# Altium footprint library STM32F401_Nucleo.PcbLib: 31 footprints (part 1 of 2)
Each footprint in its own frame and in the unit in brackets; x right, y up, seen from the top. Pads: shape width x height; smd on the part's side, far side on the other; paste and mask are expansions set on the pad; w line width, h text height; cw(c..) or ccw(c..) is an arc to the next point about the centre after c.
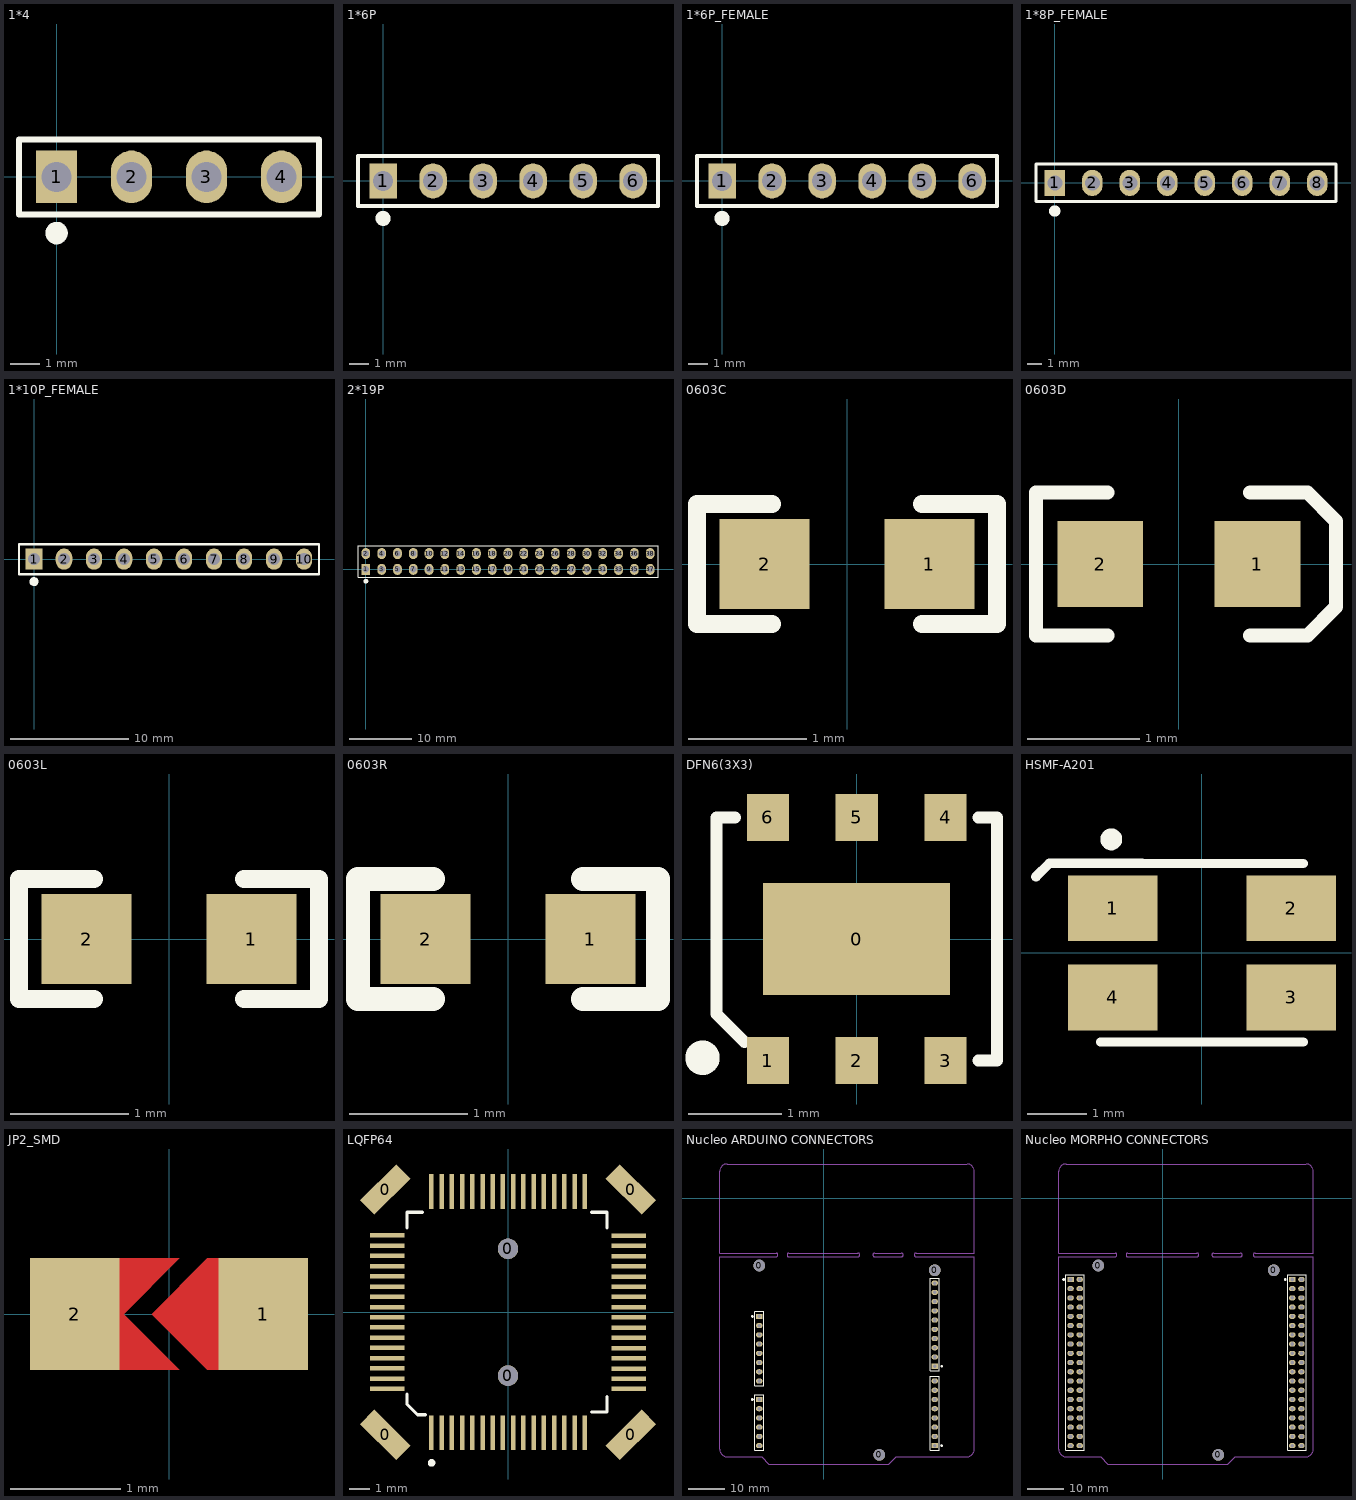
[diagram p0: the footprints below, top view; thin cyan lines are the x and y axes]

## 1*4 [mil]
pads (4):
  rect 55x70 hole 40: 1(0,0)
  oval 55x70 hole 40: 2(100,0) 3(200,0) 4(300,0)
Top Overlay:
  circle w15: c0.08,-75 r7.5
  lines w7.87: -50,-50 350,-50 350,50 -50,50 -50,-50

## 1*6P [mil]
pads (6):
  rect 55x70 hole 40: 1(0,0)
  oval 55x70 hole 40: 2(100,0) 3(200,0) 4(300,0) 5(400,0) 6(500,0)
Top Overlay:
  circle w15: c0.08,-75 r7.5
  lines w7.87: -50,-50 550,-50 550,50 -50,50 -50,-50

## 1*6P_FEMALE [mil]
pads (6):
  rect 55x70 hole 40: 1(0,0)
  oval 55x70 hole 40: 2(100,0) 3(200,0) 4(300,0) 5(400,0) 6(500,0)
Top Overlay:
  circle w15: c0.08,-75 r7.5
  lines w7.87: -50,-50 550,-50 550,50 -50,50 -50,-50

## 1*8P_FEMALE [mil]
pads (8):
  rect 55x70 hole 40: 1(0,0)
  oval 55x70 hole 40: 2(100,0) 3(200,0) 4(300,0) 5(400,0) 6(500,0) 7(600,0) 8(700,0)
Top Overlay:
  circle w15: c0.08,-75 r7.5
  lines w7.87: -50,-50 -50,50 750,50 750,-50 -50,-50

## 1*10P_FEMALE [mil]
pads (10):
  rect 55x70 hole 40: 1(0,0)
  oval 55x70 hole 40: 2(100,0) 3(200,0) 4(300,0) 5(400,0) 6(500,0) 7(600,0) 8(700,0) 9(800,0) 10(900,0)
Top Overlay:
  circle w15: c0.08,-75 r7.5
  lines w7.87: -50,-50 -50,50 950,50 950,-50 -50,-50

## 2*19P [mil]
pads (38):
  rect 55x70 hole 40: 1(0,0)
  oval 55x70 hole 40: 2(0,100) 3(100,0) 4(100,100) 5(200,0) 6(200,100) 7(300,0) 8(300,100) 9(400,0) 10(400,100) 11(500,0) 12(500,100) 13(600,0) 14(600,100) 15(700,0) 16(700,100) 17(800,0) 18(800,100) 19(900,0) 20(900,100) 21(1000,0) 22(1000,100) 23(1100,0) 24(1100,100) 25(1200,0) 26(1200,100) 27(1300,0) 28(1300,100) 29(1400,0) 30(1400,100) 31(1500,0) 32(1500,100) 33(1600,0) 34(1600,100) 35(1700,0) 36(1700,100) 37(1800,0) 38(1800,100)
Top Overlay:
  circle w15: c0.08,-75 r7.5
  lines w7.87: -50,-50 1850,-50 1850,150 -50,150 -50,-50

## 0603C [mil]
pads (2):
  rect 30x30 smd: 1(27.5,0) 2(-27.5,0)
Top Overlay:
  lines w6: -25,-20 -50,-20 -50,20 -25,20 ; 25,-20 50,-20 50,20 25,20

## 0603D [mil]
pads (2):
  rect 30x30 smd: 1(27.5,0) 2(-27.5,0)
Top Overlay:
  lines w5: -25,-25 -50,-25 -50,25 -25,25 ; 25,-25 45,-25 55,-15 55,15 45,25 25,25

## 0603L [mil]
pads (2):
  rect 30x30 smd: 1(27.5,0) 2(-27.5,0)
Top Overlay:
  lines w6: -25,-20 -50,-20 -50,20 -25,20 ; 25,-20 50,-20 50,20 25,20

## 0603R [mil]
pads (2):
  rect 30x30 smd: 1(27.5,0) 2(-27.5,0)
Top Overlay:
  lines w8: -25,-20 -50,-20 -50,20 -25,20 ; 25,-20 50,-20 50,20 25,20

## DFN6(3X3) [mm]
pads (7):
  rect 2x1.2 smd: 0(0,0)
  rect 0.45x0.5 smd: 1(-0.95,-1.3) 2(0,-1.3) 3(0.95,-1.3) 4(0.95,1.3) 5(0,1.3) 6(-0.95,1.3)
Top Overlay:
  circle w0.25: c-1.649,-1.27 r0.059
  lines w0.127: -1.3,1.3 -1.5,1.3 -1.5,-0.8 -1.2,-1.1 ; 1.3,-1.3 1.5,-1.3 1.5,1.3 1.3,1.3

## HSMF-A201 [mm]
pads (4):
  rect 1.5x1.1 smd: 1(-1.5,0.75) 2(1.5,0.75) 3(1.5,-0.75) 4(-1.5,-0.75)
Top Overlay:
  circle w0.25: c-1.522,1.905 r0.059
  lines w0.152: -1.7,-1.5 1.7,-1.5 ; -1.7,1.5 1.7,1.5
  lines w0.16: -2.786,1.278 -2.564,1.5 ; -2.54,1.5 -1,1.5

## JP2_SMD [mil]
pads (2):
  rect 32x40 smd: 1(33.75,0) 2(-33.75,0)
Top Layer:
  region: -26.25,0 -16.25,0 3.75,-20 -26.25,-20
  region: -26.25,0 -16.25,0 3.75,20 -26.25,20
  region: 23.75,20 13.75,20 -6.25,0 13.75,-20 23.75,-20
Top Paste:
  region: -26.25,0 -16.25,0 3.75,-20 -26.25,-20
  region: -26.25,0 -16.25,0 3.75,20 -26.25,20
  region: 23.75,20 13.75,20 -6.25,0 13.75,-20 23.75,-20
Top Solder:
  region: -26.25,0 -12.25,0 11.75,-24 -26.25,-24
  region: -26.25,0 -12.25,0 11.75,24 -26.25,24
  region: 23.75,24 13.75,24 -10.25,0 13.75,-24 23.75,-24

## LQFP64 [mm]
pads (70):
  rect 1x2.5 smd rot 45: 0(-6,-6) 0(6,6)
  rect 1x2.5 smd rot 135: 0(-6,6) 0(6,-6)
  round 1 hole 1 unplated: 0(0,-3.1) 0(0,3.1)
  rect 0.22x1.7 smd: 1(-3.747,-5.901) 2(-3.247,-5.901) 3(-2.747,-5.901) 4(-2.247,-5.901) 5(-1.747,-5.901) 6(-1.247,-5.901) 7(-0.747,-5.901) 8(-0.247,-5.901) 9(0.253,-5.901) 10(0.753,-5.901) 11(1.253,-5.901) 12(1.753,-5.901) 13(2.253,-5.901) 14(2.753,-5.901) 15(3.253,-5.901) 16(3.753,-5.901) 33(3.753,5.902) 34(3.253,5.902) 35(2.753,5.902) 36(2.253,5.902) 37(1.753,5.902) 38(1.253,5.902) 39(0.753,5.902) 40(0.253,5.902) 41(-0.247,5.902) 42(-0.747,5.902) 43(-1.247,5.902) 44(-1.747,5.902) 45(-2.247,5.902) 46(-2.747,5.902) 47(-3.247,5.902) 48(-3.746,5.901)
  rect 1.7x0.22 smd: 17(5.901,-3.753) 18(5.901,-3.253) 19(5.901,-2.753) 20(5.901,-2.253) 21(5.901,-1.753) 22(5.901,-1.253) 23(5.901,-0.753) 24(5.901,-0.253) 25(5.901,0.247) 26(5.901,0.747) 27(5.901,1.247) 28(5.901,1.747) 29(5.901,2.247) 30(5.901,2.747) 31(5.901,3.247) 32(5.901,3.747) 49(-5.902,3.753) 50(-5.902,3.253) 51(-5.902,2.753) 52(-5.902,2.253) 53(-5.902,1.753) 54(-5.902,1.253) 55(-5.902,0.753) 56(-5.902,0.253) 57(-5.902,-0.247) 58(-5.902,-0.747) 59(-5.902,-1.247) 60(-5.902,-1.747) 61(-5.902,-2.247) 62(-5.902,-2.746) 63(-5.902,-3.246) 64(-5.902,-3.746)
Top Overlay:
  circle w0.25: c-3.742,-7.366 r0.059
  lines w0.152: -4.938,-4 -4.938,-4.508 -4.43,-5.016 -4.049,-5.016 ; -4.938,4.128 -4.938,4.89 -4.176,4.89 ; 4.079,-4.889 4.841,-4.889 4.841,-4.127 ; 4.079,4.89 4.841,4.89 4.841,4.128

## Nucleo ARDUINO CONNECTORS [mil] "STM32F401RE Nucleo - Arduino Connectors"
pads (35):
  round 125.98 hole 125.98 unplated: 0(-700,-730) 0(600,-2780) 0(1200,-780)
  rect 70x55 hole 40: CN5_1(1200,-1820) CN6_1(-700,-1280) CN8_1(-700,-2180) CN9_1(1200,-2680)
  oval 70x55 hole 40: CN5_2(1200,-1720) CN5_3(1200,-1620) CN5_4(1200,-1520) CN5_5(1200,-1420) CN5_6(1200,-1320) CN5_7(1200,-1220) CN5_8(1200,-1120) CN5_9(1200,-1020) CN5_10(1200,-920) CN6_2(-700,-1380) CN6_3(-700,-1480) CN6_4(-700,-1580) CN6_5(-700,-1680) CN6_6(-700,-1780) CN6_7(-700,-1880) CN6_8(-700,-1980) CN8_2(-700,-2280) CN8_3(-700,-2380) CN8_4(-700,-2480) CN8_5(-700,-2580) CN8_6(-700,-2680) CN9_2(1200,-2580) CN9_3(1200,-2480) CN9_4(1200,-2380) CN9_5(1200,-2280) CN9_6(1200,-2180) CN9_7(1200,-2080) CN9_8(1199.5,-1979.5)
Top Layer:
  lines w5: -700,-2480 -699.5,-2479.5
Top Overlay:
  circle w15: c1275,-1819.92 r7.5
  circle w15: c-775,-1280.08 r7.5
  circle w15: c1275,-2679.92 r7.5
  circle w15: c-775,-2180.08 r7.5
  lines w3: -750,-1225 -650,-1225
  lines w7.87: -750,-1230 -750,-2030 -650,-2030 -650,-1230 ; -750,-2730 -750,-2130 -650,-2130 -650,-2730 -750,-2730 ; 1150,-2730 1150,-1930 1250,-1930 1250,-2730 1150,-2730 ; 1150,-1870 1150,-870 1250,-870 1250,-1870 1150,-1870
Mechanical 3:
  lines w5: 781.5,-2799.69 781.5,-2799.68 ; 781.5,-2799.69 702.76,-2878.43 -596.46,-2878.43 -675.2,-2799.68 -1049.21,-2799.69 cw(c-1049.21,-2720.95) -1127.95,-2720.95 -1127.95,-634.33 -517.72,-634.33 ccw(c-517.72,-614.65) -517.72,-594.96 -1127.95,-594.96 -1127.95,290.87 cw(c-1049.21,290.87) -1049.21,369.61 1549.21,369.61 cw(c1549.21,290.87) 1627.95,290.87 ; 781.5,-2799.68 1549.21,-2799.68 ccw(c1549.21,-2720.95) 1627.95,-2720.95 1627.95,-634.33 998.03,-634.33 cw(c998.03,-614.65) 998.03,-594.96 1627.95,-594.96 1627.95,290.87 ; 1627.95,290.87 1627.95,290.87 ; -379.92,-634.33 cw(c-379.92,-614.65) -379.92,-594.96 368.11,-594.96 cw(c368.11,-614.65) 368.11,-634.33 -379.92,-634.33 ; 550,-634.33 cw(c550,-614.65) 550,-594.96 838.58,-594.96 cw(c838.58,-614.65) 838.58,-634.33 550,-634.33

## Nucleo MORPHO CONNECTORS [mil] "STM32F401RE Nucleo - Morpho Connectors"
pads (79):
  round 125.98 hole 125.98 unplated: 0(-700,-730) 0(600,-2780) 0(1200,-780)
  rect 70x55 hole 40: CN7_1(-1000,-880) CN10_1(1400,-880)
  oval 70x55 hole 40: CN7_2(-900,-880) CN7_3(-1000,-980) CN7_4(-900,-980) CN7_5(-1000,-1080) CN7_6(-900,-1080) CN7_7(-1000,-1180) CN7_8(-900,-1180) CN7_9(-1000,-1280) CN7_10(-900,-1280) CN7_11(-1000,-1380) CN7_12(-900,-1380) CN7_13(-1000,-1480) CN7_14(-900,-1480) CN7_15(-1000,-1580) CN7_16(-900,-1580) CN7_17(-1000,-1680) CN7_18(-900,-1680) CN7_19(-1000,-1780) CN7_20(-900,-1780) CN7_21(-1000,-1880) CN7_22(-900,-1880) CN7_23(-1000,-1980) CN7_24(-900,-1980) CN7_25(-1000,-2080) CN7_26(-900,-2080) CN7_27(-1000,-2180) CN7_28(-900,-2180) CN7_29(-1000,-2280) CN7_30(-900,-2280) CN7_31(-1000,-2380) CN7_32(-900,-2380) CN7_33(-1000,-2480) CN7_34(-900,-2480) CN7_35(-1000,-2580) CN7_36(-900,-2580) CN7_37(-1000,-2680) CN7_38(-900,-2680) CN10_2(1500,-880) CN10_3(1400,-980) CN10_4(1500,-980) CN10_5(1400,-1080) CN10_6(1500,-1080) CN10_7(1400,-1180) CN10_8(1500,-1180) CN10_9(1400,-1280) CN10_10(1500,-1280) CN10_11(1400,-1380) CN10_12(1500,-1380) CN10_13(1400,-1480) CN10_14(1500,-1480) CN10_15(1400,-1580) CN10_16(1500,-1580) CN10_17(1400,-1680) CN10_18(1500,-1680) CN10_19(1400,-1780) CN10_20(1500,-1780) CN10_21(1400,-1880) CN10_22(1500,-1880) CN10_23(1400,-1980) CN10_24(1500,-1980) CN10_25(1400,-2080) CN10_26(1500,-2080) CN10_27(1400,-2180) CN10_28(1500,-2180) CN10_29(1400,-2280) CN10_30(1500,-2280) CN10_31(1400,-2380) CN10_32(1500,-2380) CN10_33(1400,-2480) CN10_34(1500,-2480) CN10_35(1400,-2580) CN10_36(1500,-2580) CN10_37(1400,-2680) CN10_38(1500,-2680)
Top Overlay:
  circle w15: c1325,-880.08 r7.5
  circle w15: c-1075,-880.08 r7.5
  lines w7.87: -1050,-2730 -850,-2730 -850,-830 -1050,-830 -1050,-2730 ; 1350,-2730 1350,-830 1550,-830 1550,-2730 1350,-2730
Mechanical 3:
  lines w5: 781.5,-2799.68 1549.21,-2799.68 ccw(c1549.21,-2720.95) 1627.95,-2720.95 1627.95,-634.33 998.03,-634.33 cw(c998.03,-614.65) 998.03,-594.96 1627.95,-594.96 1627.95,290.87 ; 781.5,-2799.69 702.76,-2878.43 -596.46,-2878.43 -675.2,-2799.68 -1049.21,-2799.69 cw(c-1049.21,-2720.95) -1127.95,-2720.95 -1127.95,-634.33 -517.72,-634.33 ccw(c-517.72,-614.65) -517.72,-594.96 -1127.95,-594.96 -1127.95,290.87 cw(c-1049.21,290.87) -1049.21,369.61 1549.21,369.61 cw(c1549.21,290.87) 1627.95,290.87 ; 781.5,-2799.69 781.5,-2799.68 ; 1627.95,290.87 1627.95,290.87 ; -379.92,-634.33 cw(c-379.92,-614.65) -379.92,-594.96 368.11,-594.96 cw(c368.11,-614.65) 368.11,-634.33 -379.92,-634.33 ; 550,-634.33 cw(c550,-614.65) 550,-594.96 838.58,-594.96 cw(c838.58,-614.65) 838.58,-634.33 550,-634.33